# Altium integrated library Data_Converter_ICs.IntLib: 5 symbols
Pins are listed as number, name and electrical type; pins without a type are passive.

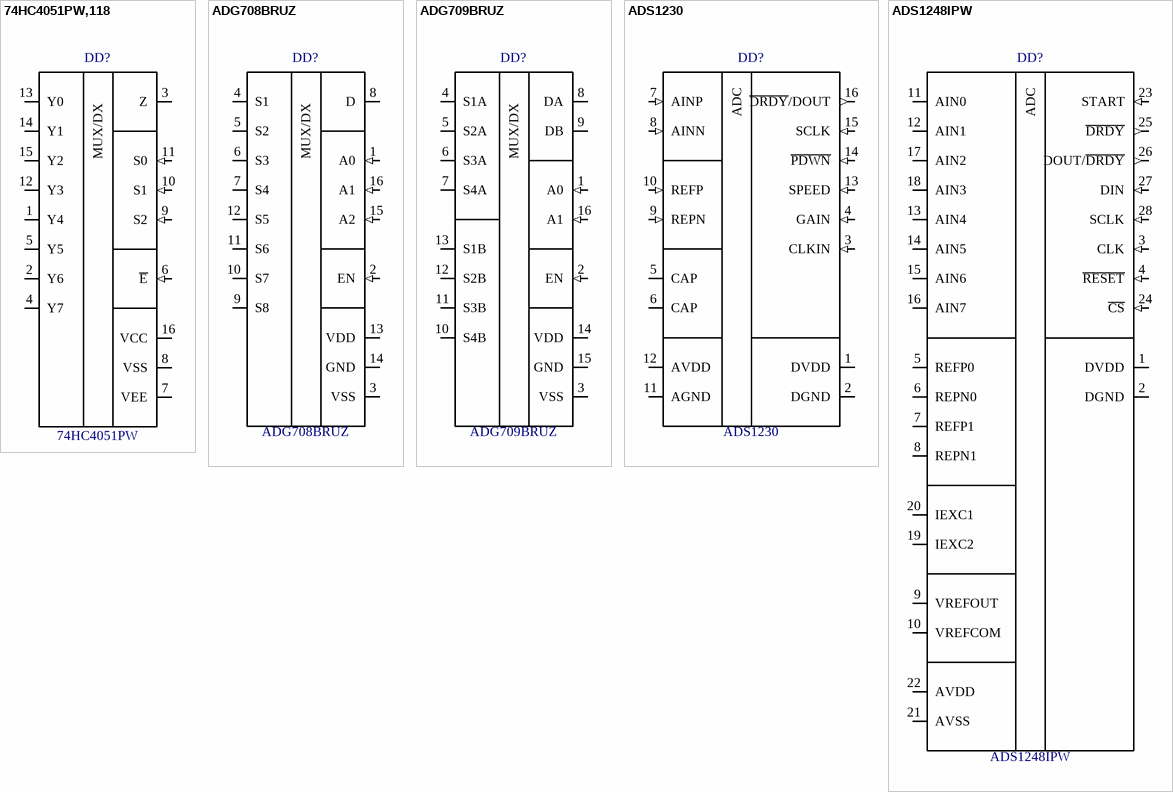
[diagram p0: symbols 74HC4051PW,118 to ADS1248IPW]

## 74HC4051PW,118
designator DD?, comment 74HC4051PW
Analog Switch SP8T Multiplexer and Demultiplexer; Manufacturer: Nexperia; PartNumber: 74HC4051PW,118; Name: Мультиплексор 74HC4051PW,118; 1Ccode: *; 1Cname: *; 1CfullName: *; 1Cgroup: *; 1Carticle: *; ComponentLink1Description: DatasheetLink; ComponentLink1URL: https://assets.nexperia.com/documents/data-sheet/74HC_HCT4051.pdf; Case: TSSOP-16
footprint TSSOP-16
signal-integrity model HC4051
pins: 1 Y4 (io), 2 Y6 (io), 3 Z (io), 4 Y7 (io), 5 Y5 (io), 6 ~{E} (in), 7 VEE (power), 8 VSS (power), 9 S2 (in), 10 S1 (in), 11 S0 (in), 12 Y3 (io), 13 Y0 (io), 14 Y1 (io), 15 Y2 (io), 16 VCC (power)
text: MUX/DX

## ADG708BRUZ
designator DD?
8-Channel Multiplexer; Manufacturer: Analog Devices; 1Ccode: М00050094; 1Cname: Микросхема ADG708BRUZ; 1Cgroup: 01010102; 1Carticle: 38726; Name: Мультиплексор ADG708BRUZ; 1CfullName: Микросхема ADG708BRUZ; PartNumber: ADG708BRUZ; ComponentLink1Description: DatasheetLink; ComponentLink1URL: https://www.analog.com/media/en/technical-documentation/data-sheets/adg708_709.pdf; Case: TSSOP-16
footprint TSSOP-16
pins: 1 A0 (in), 2 EN (in), 3 VSS (power), 4 S1, 5 S2, 6 S3, 7 S4, 8 D, 9 S8, 10 S7, 11 S6, 12 S5, 13 VDD (power), 14 GND (power), 15 A2 (in), 16 A1 (in)
text: MUX/DX

## ADG709BRUZ
designator DD?
Diff 4-Channel Multiplexer; Manufacturer: Analog Devices; 1Ccode: М00050095; 1Cname: Микросхема ADG709BRUZ; 1Cgroup: 01010102; 1Carticle: 38727; Name: Мультиплексор ADG709BRUZ; 1CfullName: Микросхема ADG709BRUZ; PartNumber: ADG709BRUZ; ComponentLink1Description: DatasheetLink; ComponentLink1URL: https://www.analog.com/media/en/technical-documentation/data-sheets/adg708_709.pdf; Case: TSSOP-16
footprint TSSOP-16
pins: 1 A0 (in), 2 EN (in), 3 VSS (power), 4 S1A, 5 S2A, 6 S3A, 7 S4A, 8 DA, 9 DB, 10 S4B, 11 S3B, 12 S2B, 13 S1B, 14 VDD (power), 15 GND (power), 16 A1 (in)
text: MUX/DX

## ADS1230
designator DD?
ADC 20-Bit Delta Sigma For Bridge Sensors; 1Ccode: *; 1Cname: *; 1CfullName: *; 1Cgroup: *; 1Carticle: *; Manufacturer: *; Name: *; PartNumber: *; ComponentLink1Description: DatasheetLink; ComponentLink1URL: *; Case: *
footprint TSSOP-16
pins: 1 DVDD (power), 2 DGND, 3 CLKIN (in), 4 GAIN (in), 5 CAP, 6 CAP, 7 AINP (in), 8 AINN (in), 9 REPN (in), 10 REFP (in), 11 AGND (power), 12 AVDD (power), 13 SPEED (in), 14 ~{PDWN} (in), 15 SCLK (in), 16 ~{DRDY}/DOUT (out)
text: ADC

## ADS1248IPW
designator DD?
ADC 20-Bit Delta Sigma For Bridge Sensors; Manufacturer: Texas Instruments; 1Ccode: М00053287; 1Cgroup: 01010102; 1Carticle: 39963; Name: АЦП ADS1248IPWR; 1Cname: ADS1248IPW; 1CfullName: ADS1248IPW; PartNumber: ADS1248IPW; ComponentLink1Description: DatasheetLink; ComponentLink1URL: *; Case: TSSOP-28
footprint TSSOP-28
pins: 1 DVDD (power), 2 DGND, 3 CLK (in), 4 ~{RESET} (in), 5 REFP0, 6 REPN0, 7 REFP1, 8 REPN1, 9 VREFOUT, 10 VREFCOM, 11 AIN0, 12 AIN1, 13 AIN4, 14 AIN5, 15 AIN6, 16 AIN7, 17 AIN2, 18 AIN3, 19 IEXC2, 20 IEXC1, 21 AVSS (power), 22 AVDD (power), 23 START (in), 24 ~{CS} (in), 25 ~{DRDY} (out), 26 DOUT/~{DRDY} (out), 27 DIN (in), 28 SCLK (in)
text: ADC